# EAGLE library part IRS_IR2184 (library ADB-3020-CDV)
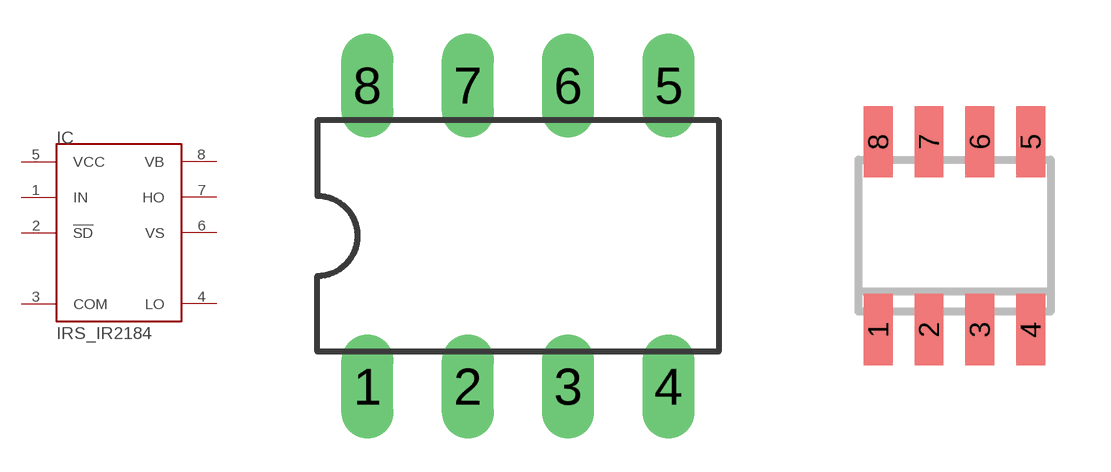
[diagram p0: symbol with the pads of IRS_DIL08; footprints IRS_DIL08, IRS_SO08]

Designator prefix IC

## IRS_IR2184D  [IRS_DIL08]
1  IN  in
2  !SD  in
3  COM  sup
4  LO  out
5  VCC  sup
6  VS  sup
7  HO  out
8  VB  sup

## IRS_IR2184S  [IRS_SO08]
Pads as for IRS_DIL08

## Footprint IRS_DIL08 (pad centres in mm)
Dual In Line Package
drill 0.813 long: 1 -3.81,-3.81; 2 -1.27,-3.81; 3 1.27,-3.81; 4 3.81,-3.81; 5 3.81,3.81; 6 1.27,3.81; 7 -1.27,3.81; 8 -3.81,3.81

## Footprint IRS_SO08 (pad centres in mm)
8 Lead SOIC Data Sheet No. PD60212 Rev A Source: www.irf.com .. ir2520.pdf
smd 0.72 x 1.78: 1 -1.905,-2.35; 2 -0.635,-2.35; 3 0.635,-2.35; 4 1.905,-2.35; 5 1.905,2.35; 6 0.635,2.35; 7 -0.635,2.35; 8 -1.905,2.35